# Altium schematic symbol library TC4426A.SchLib: 1 symbol
Pins are listed as number, name and electrical type; pins without a type are passive.

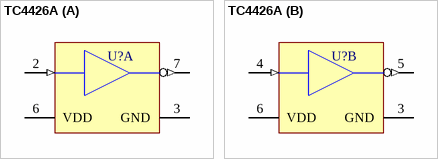
[diagram p0: symbol TC4426A]

## TC4426A
designator U?  (value not drawn)
footprint SO8-150
part A pins: 2 INA (in), 3 GND (power), 6 VDD (power), 7 ~{OUTA} (out)
part B pins: 3 GND (power), 4 INB (in), 5 ~{OUTB} (out), 6 VDD (power)